# Altium footprint library Quatro_PcbLib.PcbLib: 46 footprints (part 2 of 3)
Each footprint in its own frame and in the unit in brackets; x right, y up, seen from the top. Pads: shape width x height; smd on the part's side, far side on the other; paste and mask are expansions set on the pad; w line width, h text height; cw(c..) or ccw(c..) is an arc to the next point about the centre after c.
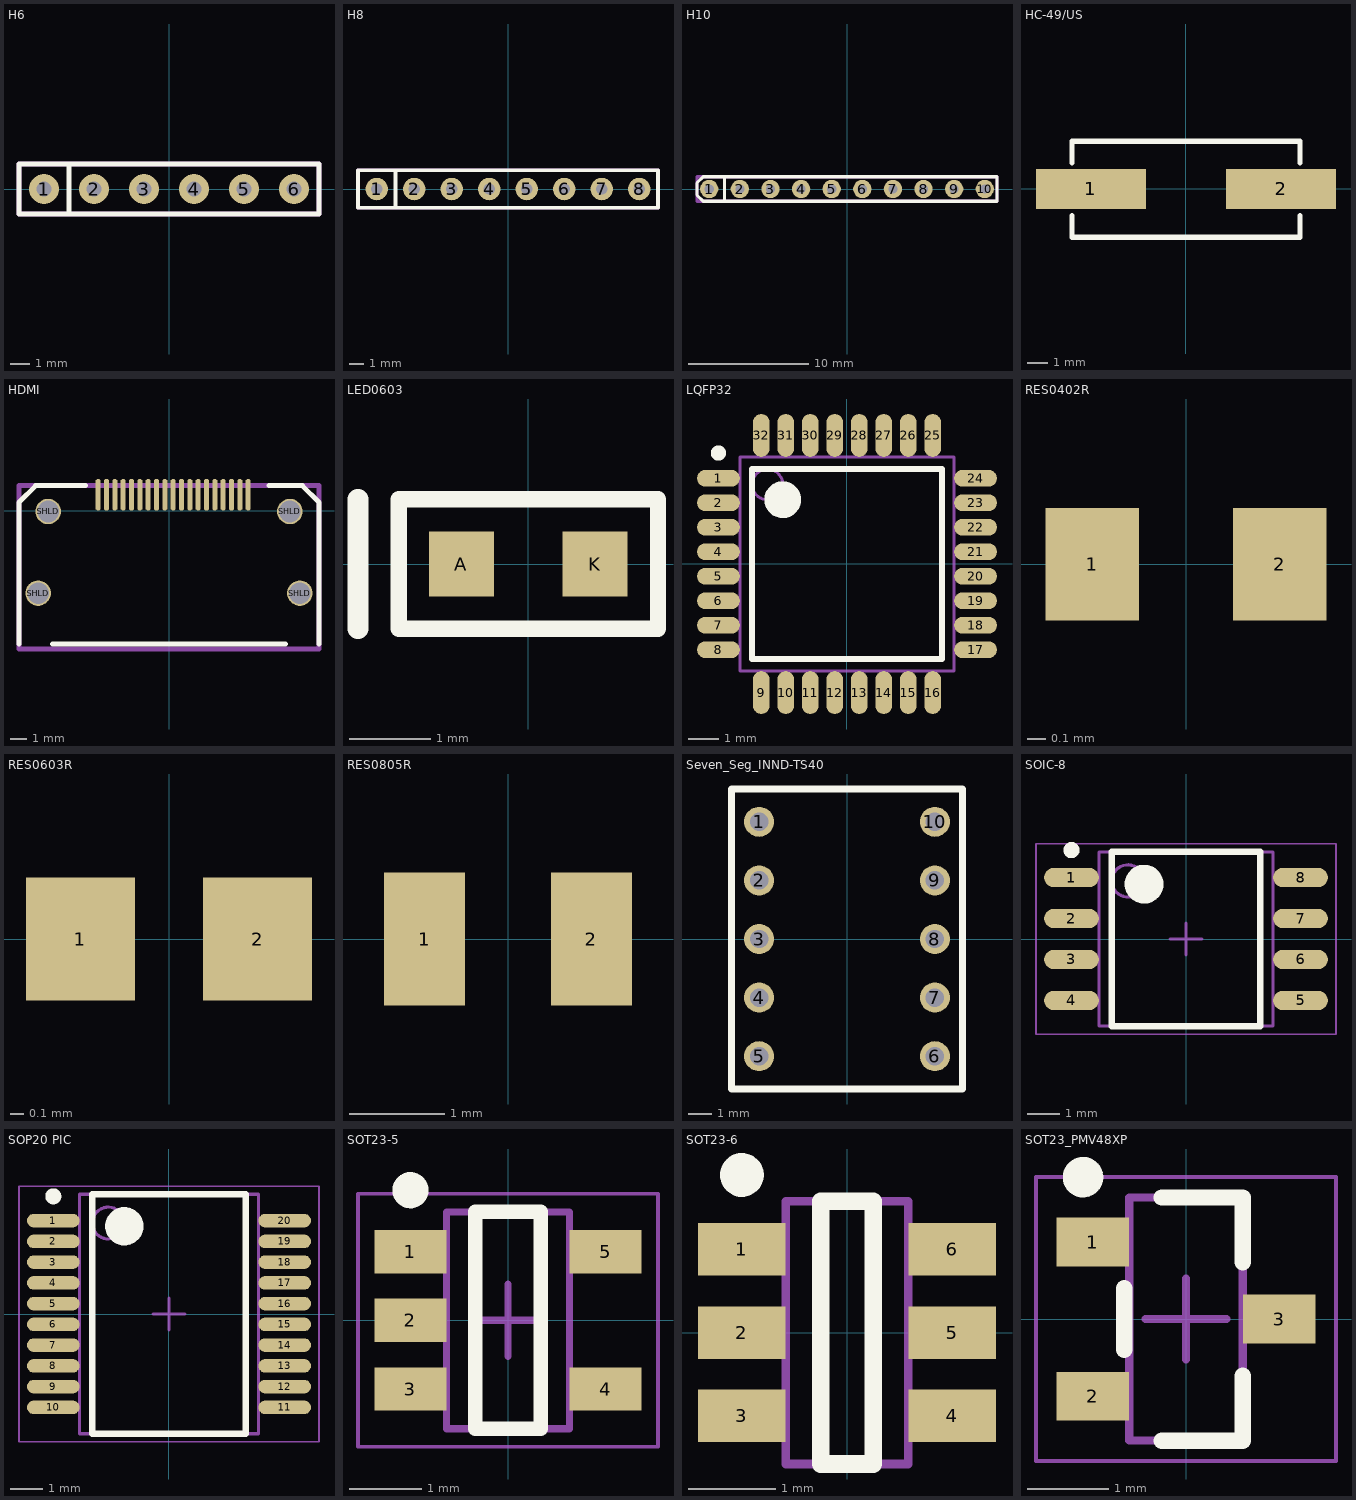
[diagram p1: the footprints below, top view; thin cyan lines are the x and y axes]

## H6 [mil] "Headers 0.1mil pitch"
pads (6):
  round 60 hole 30: 1(-250,0) 2(-150,0) 3(-50,0) 4(50,0) 5(150,0) 6(250,0)
Top Overlay:
  lines w10: -200,-50 -200,50 ; -300,-50 -300,50 300,50 300,-50 -300,-50
Mechanical 15:
  lines w10: -200,50 300,50 ; -300,50 300,50 ; -300,50 -300,-50 300,-50 300,50 ; -300,50 300,50
3D body: height 98.43, standoff 0, extent -300,-50 -199.99,50.01
3D body: height 334.65, standoff -118.11, extent -262.69,-12.76 -237.2,12.78
3D body: height 98.43, standoff 0, extent -200,-50 -99.99,50.01
3D body: height 334.65, standoff -118.11, extent -162.69,-12.76 -137.2,12.78
3D body: height 98.43, standoff 0, extent -100,-50 0.01,50.01
3D body: height 334.65, standoff -118.11, extent -62.69,-12.76 -37.2,12.78
3D body: height 98.43, standoff 0, extent 0,-50 100.01,50.01
3D body: height 334.65, standoff -118.11, extent 37.31,-12.76 62.8,12.78
3D body: height 98.43, standoff 0, extent 100,-50 200.01,50.01
3D body: height 334.65, standoff -118.11, extent 137.31,-12.76 162.8,12.78
3D body: height 98.43, standoff 0, extent 200,-50 300.01,50.01
3D body: height 334.65, standoff -118.11, extent 237.31,-12.76 262.8,12.78

## H8 [mil] "Headers 0.1mil pitch"
pads (8):
  round 60 hole 30: 1(-350,0) 2(-250,0) 3(-150,0) 4(-50,0) 5(50,0) 6(150,0) 7(250,0) 8(350,0)
Top Overlay:
  lines w10: -300,-50 -300,50 ; -400,-50 400,-50 400,50 -400,50 -400,-50
Mechanical 15:
  lines w10: -400,-50 400,-50 400,50 -400,50 -400,-50
3D body: height 98.43, standoff 0, extent -400,-50 -299.99,50.01
3D body: height 334.65, standoff -118.11, extent -362.69,-12.76 -337.2,12.78
3D body: height 98.43, standoff 0, extent -300,-50 -199.99,50.01
3D body: height 334.65, standoff -118.11, extent -262.69,-12.76 -237.2,12.78
3D body: height 98.43, standoff 0, extent -200,-50 -99.99,50.01
3D body: height 334.65, standoff -118.11, extent -162.69,-12.76 -137.2,12.78
3D body: height 98.43, standoff 0, extent -100,-50 0.01,50.01
3D body: height 334.65, standoff -118.11, extent -62.69,-12.76 -37.2,12.78
3D body: height 98.43, standoff 0, extent 0,-50 100.01,50.01
3D body: height 334.65, standoff -118.11, extent 37.31,-12.76 62.8,12.78
3D body: height 98.43, standoff 0, extent 100,-50 200.01,50.01
3D body: height 334.65, standoff -118.11, extent 137.31,-12.76 162.8,12.78
3D body: height 98.43, standoff 0, extent 200,-50 300.01,50.01
3D body: height 334.65, standoff -118.11, extent 237.31,-12.76 262.8,12.78
3D body: height 98.43, standoff 0, extent 300,-50 400.01,50.01
3D body: height 334.65, standoff -118.11, extent 337.31,-12.76 362.8,12.78

## H10 [mil] "Headers 0.1mil pitch"
pads (10):
  round 60 hole 30: 1(-450,0) 2(-350,0) 3(-250,0) 4(-150,0) 5(-50,0) 6(50,0) 7(150,0) 8(250,0) 9(350,0) 10(450,0)
Top Overlay:
  lines w10: -400,-40 -400,40 ; -490,-20 -490,20 -470,40 490,40 490,-40 -470,-40 -490,-20
Mechanical 15:
  lines w10: -490,-40 -490,40 490,40 490,-40 -490,-40
3D body: height 98.43, standoff 0, extent 400,-45 495,45
3D body: height 98.43, standoff 0, extent 300,-45 400,45
3D body: height 98.43, standoff 0, extent 200,-45 300,45
3D body: height 98.43, standoff 0, extent 100,-45 200,45
3D body: height 98.43, standoff 0, extent 0,-45 100,45
3D body: height 98.43, standoff 0, extent -100,-45 0,45
3D body: height 98.43, standoff 0, extent -200,-45 -100,45
3D body: height 98.43, standoff 0, extent -300,-45 -200,45
3D body: height 98.43, standoff 0, extent -400,-45 -300,45
3D body: height 334.65, standoff -118.11, extent 437.31,-12.76 462.8,12.78
3D body: height 334.65, standoff -118.11, extent 337.31,-12.76 362.8,12.78
3D body: height 334.65, standoff -118.11, extent 237.31,-12.76 262.8,12.78
3D body: height 334.65, standoff -118.11, extent 137.31,-12.76 162.8,12.78
3D body: height 334.65, standoff -118.11, extent 37.31,-12.76 62.8,12.78
3D body: height 334.65, standoff -118.11, extent -62.69,-12.76 -37.2,12.78
3D body: height 334.65, standoff -118.11, extent -162.69,-12.76 -137.2,12.78
3D body: height 334.65, standoff -118.11, extent -262.69,-12.76 -237.2,12.78
3D body: height 334.65, standoff -118.11, extent -362.69,-12.76 -337.2,12.78
3D body: height 98.43, standoff 0, extent -495,-45 -400,45
3D body: height 334.65, standoff -118.11, extent -462.69,-12.76 -437.2,12.78

## HC-49/US [mm] "Crystal"
height 4.3
pads (2):
  rect 5.5x2 smd: 1(-4.75,0) 2(4.75,0)
Top Overlay:
  lines w0.254: -5.7,-1.321 -5.7,-2.411 5.7,-2.411 5.7,-1.321 ; -5.7,1.3 -5.7,2.389 5.7,2.389 5.7,1.3
3D body: height 4.3, standoff 0.1, extent -5.5,-2.2 5.5,2.2
3D body: height 0.75, standoff 0, extent -5.7,-2.411 5.7,2.389
3D body: height 9.51, standoff -5.35, extent -5.7,2.389 -5.7,2.389

## HDMI [mm] "Amphenol HDMI HDMI™ 1.4 Receptacle Connector 19 Position Surface Mount, Right Angle; Through Hole"
pads (23):
  oct 0.3x1.9 smd: 1(4.75,0.95) 2(4.25,0.95) 3(3.75,0.95) 4(3.25,0.95) 5(2.75,0.95) 6(2.25,0.95) 7(1.75,0.95) 8(1.25,0.95) 9(0.75,0.95) 10(0.25,0.95) 11(-0.25,0.95) 12(-0.75,0.95) 13(-1.25,0.95) 14(-1.75,0.95) 15(-2.25,0.95) 16(-2.75,0.95) 17(-3.25,0.95) 18(-3.75,0.95) 19(-4.25,0.95)
  round 1.524 hole 1.3: SHLD(-7.85,-4.95) SHLD(-7.25,-0.05) SHLD(7.25,-0.05) SHLD(7.85,-4.95)
Top Overlay:
  lines w0.3: -9,-8 -9,0.5 -8,1.5 -5,1.5 ; -7,-8 7,-8 ; 6,1.5 8,1.5 9,0.5 9,-8
Mechanical 15:
  lines w0.3: -9,-8.3 9,-8.3 9,1.5 -9,1.5 -9,-8.3
3D body "HDMI_socket.STEP": height 6.18, standoff -1.83, extent -8.099,-8.5 8.099,1.4

## LED0603 [mm] "ROHM LED 0603 SML-D12x1 Series"
pads (2):
  rect 0.8x0.8 smd: A(-0.825,0) K(0.825,0)
Top Overlay:
  lines w0.203: -1.6,-0.8 -1.6,0.8 1.6,0.8 1.6,-0.8 -1.6,-0.8
  lines w0.254: -2.1,-0.8 -2.1,0.8
3D body: height 0.18, standoff 0, extent -0.8,-0.4 -0.6,0.4
3D body: height 0.18, standoff 0, extent 0.6,-0.4 0.8,0.4
3D body: height 0.55, standoff 0, extent -0.6,-0.4 0.6,0.4

## LQFP32 [mm] "TQFP, 32-Leads, Body 7,00x7,00mm, Pitch 0,80mm, IPC Medium Density"
height 1.6
pads (32):
  oval 1.4x0.55 smd: 1(-4.2,2.8) 2(-4.2,2) 3(-4.2,1.2) 4(-4.2,0.4) 5(-4.2,-0.4) 6(-4.2,-1.2) 7(-4.2,-2) 8(-4.2,-2.8) 17(4.2,-2.8) 18(4.2,-2) 19(4.2,-1.2) 20(4.2,-0.4) 21(4.2,0.4) 22(4.2,1.2) 23(4.2,2) 24(4.2,2.8)
  oval 0.55x1.4 smd: 9(-2.8,-4.2) 10(-2,-4.2) 11(-1.2,-4.2) 12(-0.4,-4.2) 13(0.4,-4.2) 14(1.2,-4.2) 15(2,-4.2) 16(2.8,-4.2) 25(2.8,4.2) 26(2,4.2) 27(1.2,4.2) 28(0.4,4.2) 29(-0.4,4.2) 30(-1.2,4.2) 31(-2,4.2) 32(-2.8,4.2)
Top Overlay:
  circle w0.25: c-4.2,3.625 r0.125
  circle w0.6: c-2.1,2.1 r0.3
  lines w0.2: -3.1,-3.1 -3.1,3.1 3.1,3.1 3.1,-3.1 -3.1,-3.1
Mechanical 13:
  circle w0.1: c-2.6,2.6 r0.5
  lines w0.1: -3.5,-3.5 -3.5,3.5 3.5,3.5 3.5,-3.5 -3.5,-3.5
3D body "TQFP80P900X900X160-32N.step": height 1.6, standoff 0, extent -4.5,-4.5 4.5,4.5

## RES0402R [mm] "resistor 0402 reflow soldering"
pads (2):
  rect 0.5x0.6 smd: 1(-0.5,0) 2(0.5,0)
3D body "RES0402.stp": height 0.3, standoff 0, extent -0.5,-0.25 0.5,0.25

## RES0603R [mm] "resistor 0603 reflow soldering"
pads (2):
  rect 0.8x0.9 smd: 1(-0.65,0) 2(0.65,0)
3D body "res0603.stp": height 0.45, standoff 0, extent -0.8,-0.4 0.8,0.4

## RES0805R [mm] "resistor 0805 reflow soldering"
pads (2):
  rect 0.85x1.4 smd: 1(-0.875,0) 2(0.875,0)
3D body "RES0805.stp": height 0.5, standoff 0, extent -1,-0.625 1,0.625

## Seven_Seg_INND-TS40 [mm]
height 6.36
pads (10):
  round 1.3 hole 0.8: 1(-3.81,5.08) 2(-3.81,2.54) 3(-3.81,0) 4(-3.81,-2.54) 5(-3.81,-5.08) 6(3.81,-5.08) 7(3.81,-2.54) 8(3.81,0) 9(3.81,2.54) 10(3.81,5.08)
Top Overlay:
  lines w0.3: -5,-6.5 5,-6.5 5,6.5 -5,6.5 -5,-6.5
Mechanical 15:
  lines w0.05: -5,-6.5 -5,6.5 5,6.5 5,-6.5 -5,-6.5
3D body: height 6.37, standoff 6.36, extent -3,0.25 -2,4.75
3D body: height 6.37, standoff 6.36, extent -4.825,-6.45 4.825,6.45
3D body: height 6.36, standoff 0, extent -4.825,-6.45 -3.25,6.45
3D body: height 6.37, standoff 6.36, extent -2.25,4.5 2.25,5.5
3D body: height 6.37, standoff 6.36, extent 2,0.25 3,4.75
3D body: height 6.37, standoff 6.36, extent -2.25,-0.5 2.25,0.5
3D body: height 6.37, standoff 6.36, extent -3,-4.75 -2,-0.25
3D body: height 6.37, standoff 6.36, extent -2.25,-5.5 2.25,-4.5
3D body: height 6.37, standoff 6.36, extent 2,-4.75 3,-0.25
3D body: height 6.36, standoff 1, extent -4.825,-6.45 4.825,6.45
3D body: height 6.36, standoff 0, extent 3.25,-6.45 4.825,6.45
3D body: height 6.38, standoff 6.37, extent 2.754,-5.749 3.75,-4.751

## SOIC-8 [mm] "SOIC, 8-Leads, Body 5,28x5,28mm, Pitch 1,27mm, IPC Medium Density"
height 2.16
pads (8):
  oval 1.7x0.6 smd: 1(-3.55,1.905) 2(-3.55,0.635) 3(-3.55,-0.635) 4(-3.55,-1.905) 5(3.55,-1.905) 6(3.55,-0.635) 7(3.55,0.635) 8(3.55,1.905)
Top Overlay:
  circle w0.25: c-3.55,2.755 r0.125
  circle w0.6: c-1.3,1.7 r0.3
  lines w0.2: -2.3,-2.7 -2.3,2.7 2.3,2.7 2.3,-2.7 -2.3,-2.7
Mechanical 13:
  circle w0.1: c-1.8,1.8 r0.5
  lines w0.1: -2.7,-2.7 -2.7,2.7 2.7,2.7 2.7,-2.7 -2.7,-2.7
Mechanical 15:
  lines w0.05: -4.65,-2.95 -4.65,2.95 4.65,2.95 4.65,-2.95 -4.65,-2.95
  lines w0.1: -0.5,0 0.5,0 ; 0,-0.5 0,0.5
3D body "SOIC127P790X216-8N.step": height 2.16, standoff 0, extent -3.95,-2.7 3.95,2.7

## SOP20 PIC [mm] "SOP, 20-Leads, Body 7.20x5.30mm, Pitch 0.65mm, IPC Medium Density"
height 2
pads (20):
  oval 1.65x0.425 smd: 1(-3.625,2.925) 2(-3.625,2.275) 3(-3.625,1.625) 4(-3.625,0.975) 5(-3.625,0.325) 6(-3.625,-0.325) 7(-3.625,-0.975) 8(-3.625,-1.625) 9(-3.625,-2.275) 10(-3.625,-2.925) 11(3.625,-2.925) 12(3.625,-2.275) 13(3.625,-1.625) 14(3.625,-0.975) 15(3.625,-0.325) 16(3.625,0.325) 17(3.625,0.975) 18(3.625,1.625) 19(3.625,2.275) 20(3.625,2.925)
Top Overlay:
  circle w0.6: c-1.4,2.75 r0.3
  circle w0.25: c-3.625,3.688 r0.125
  lines w0.2: -2.4,-3.75 2.4,-3.75 2.4,3.75 -2.4,3.75 -2.4,-3.75
Mechanical 13:
  circle w0.1: c-1.9,2.85 r0.5
  lines w0.1: -2.8,-3.75 2.8,-3.75 2.8,3.75 -2.8,3.75 -2.8,-3.75
Mechanical 15:
  lines w0.05: -4.7,-4 4.7,-4 4.7,4 -4.7,4 -4.7,-4
  lines w0.1: -0.5,0 0.5,0 ; 0,-0.5 0,0.5
3D body "SOP20 PIC.step": height 2, standoff 0, extent -3.9,-3.75 3.9,3.75

## SOT23-5 [mm] "SOT23, 5-Leads, Body 2,90x2,80mm, Pitch 0,95mm, IPC Medium Density"
height 1.1
pads (5):
  rect 1x0.6 smd: 1(-1.35,0.95) 2(-1.35,0) 3(-1.35,-0.95) 4(1.35,-0.95) 5(1.35,0.95)
Top Overlay:
  circle w0.25: c-1.35,1.8 r0.125
  lines w0.2: -0.45,-1.5 0.45,-1.5 0.45,1.5 -0.45,1.5 -0.45,-1.5
Mechanical 13:
  lines w0.1: -0.85,-1.5 -0.85,1.5 0.85,1.5 0.85,-1.5 -0.85,-1.5
Mechanical 15:
  lines w0.05: -2.075,-1.75 -2.075,1.75 2.075,1.75 2.075,-1.75 -2.075,-1.75
  lines w0.1: -0.5,0 0.5,0 ; 0,-0.5 0,0.5
3D body "SOT95P280X110-5N.step": height 1.1, standoff 0, extent -1.45,-1.5 1.45,1.5

## SOT23-6 [mm] "SOT23, 6-Leads, Body 2,90x2,45mm, Pitch 0,95mm, IPC Medium Density"
height 1.1
pads (6):
  rect 1x0.6 smd: 1(-1.2,0.95) 2(-1.2,0) 3(-1.2,-0.95) 4(1.2,-0.95) 5(1.2,0) 6(1.2,0.95)
Top Overlay:
  circle w0.25: c-1.2,1.8 r0.125
  lines w0.2: -0.3,-1.5 -0.3,1.5 0.3,1.5 0.3,-1.5 -0.3,-1.5
Mechanical 13:
  lines w0.1: -0.7,-1.5 0.7,-1.5 0.7,1.5 -0.7,1.5 -0.7,-1.5
3D body "SOT95P245X110-6N.step": height 1.1, standoff 0, extent -1.3,-1.5 1.3,1.5

## SOT23_PMV48XP [mm] "SOT23, 3-Leads, Body 2.90x2.30mm, Pitch 0.95mm, IPC Medium Density, PMV48XP"
height 1.1
pads (3):
  rect 0.9x0.6 smd: 1(-1.15,0.95) 2(-1.15,-0.95) 3(1.15,0)
Top Overlay:
  circle w0.25: c-1.27,1.75 r0.125
  lines w0.2: -0.3,-1.5 0.7,-1.5 0.7,-0.7 ; -0.3,1.5 0.7,1.5 0.7,0.7
  lines w0.203: -0.762,-0.381 -0.762,0.381
Mechanical 13:
  lines w0.1: -0.7,-1.5 -0.7,1.5 0.7,1.5 0.7,-1.5 -0.7,-1.5
Mechanical 15:
  lines w0.05: -1.85,-1.75 -1.85,1.75 1.85,1.75 1.85,-1.75 -1.85,-1.75
  lines w0.1: -0.5,0 0.5,0 ; 0,-0.5 0,0.5
3D body "SOT23_PMV48XP.step": height 1.1, standoff 0, extent -1.25,-1.5 1.25,1.5